# Altium integrated library TI Data Converters Analog to Digital Converter.IntLib: 2197 symbols (part 56 of 168)
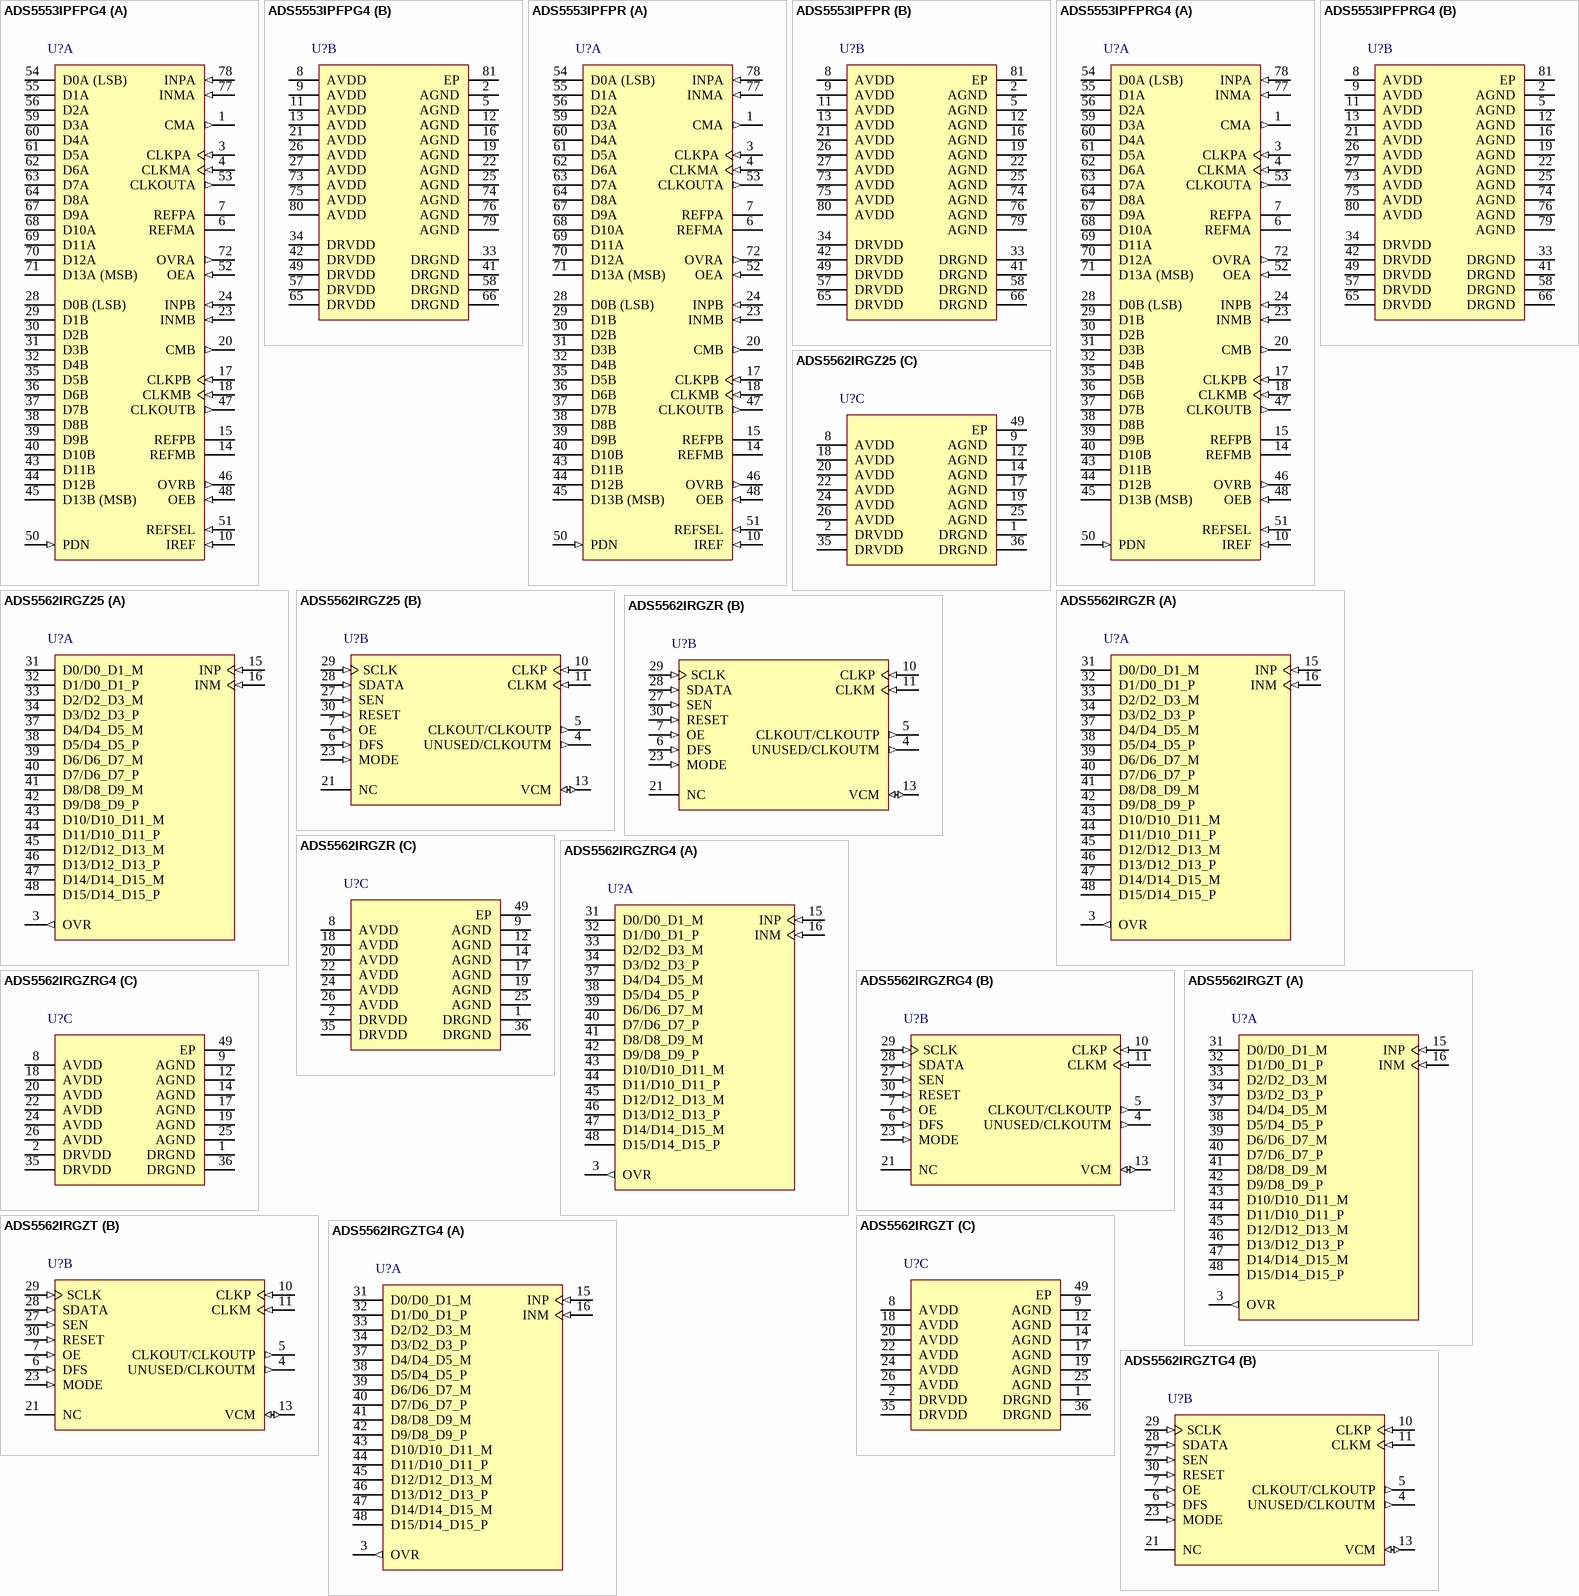
[diagram p181: symbols ADS5553IPFPG4 to ADS5562IRGZTG4]

## ADS5562IRGZR
designator U?
16-Bit 80 MSPS Low Power ADC with Selectable LVDS / CMOS Output, -40 to 85 degC, 48-pin QFN (RGZ48), Green (RoHS & no Sb/Br); Manufacturer: Texas Instruments; PartNumber: ADS5562IRGZR; # Input Channels: 1; Analog Voltage AV/DD(Max)(V): 3.6; Analog Voltage AV/DD(Min)(V): 3; Architecture: Pipeline; ENOB(Bits): 13.1; INL(Max)(+/-LSB): 8.5; Interface: Parallel LVDS,Serial SPI Interface; Resolution(Bits): 16; Sample Rate (max)(SPS): 80M; SFDR(dB): 85; SINAD(dB): 80.5; SNR(dB): 84; SubFamily: High Speed ADC (>10MSPS); DatasheetVersion: SLWS207A; PackageVersion: 4204101/F, 06/2011; PackageReference: RGZ48-5150X5150TP; PackageDescription: 48-Pin Plastic Flat Pack, Body 7 x 7 mm, Pitch 0.5 mm; Supplier 1: Digi-Key; Supplier Part Number 1: ADS8371IBPFBR-ND; Supplier 2: Mouser; Supplier Part Number 2: 595-ADS8371IBPFBR; Digital Supply(Max)(V): 3.6; Digital Supply(Min)(V): 3; Eco-Plan: Green (RoHS & no Sb/Br); Mounting Technology: Surface Mount; Code_JEDEC: MO-220; ComponentLink1Description: Manufacturer URL; ComponentLink1URL: http://www.ti.com/; ComponentLink2Description: Datasheet; ComponentLink2URL: http://www.ti.com/general/docs/lit/getliterature.tsp?genericPartNumber=ADS5562&fileType=pdf; ComponentLink3Description: Package Specification; ComponentLink3URL: http://www.ti.com/lit/ml/mpqf123e/mpqf123e.pdf
footprint TI-RGZ48-5150X5150TP_V (QFN, 48-Leads, Body 7x7mm, Pitch 0.5mm, Thermal Pad 5.15x5.15mm, TI Recommended)
part A pins: 3 OVR (out) "Out-of-range indicator, CMOS level signal", 15 INP (in) "Differential analog input", 16 INM (in) "Differential analog input", 31 D0/D0_D1_M (hiz), 32 D1/D0_D1_P (hiz), 33 D2/D2_D3_M (hiz), 34 D3/D2_D3_P (hiz), 37 D4/D4_D5_M (hiz), 38 D5/D4_D5_P (hiz), 39 D6/D6_D7_M (hiz), 40 D7/D6_D7_P (hiz), 41 D8/D8_D9_M (hiz), 42 D9/D8_D9_P (hiz), 43 D10/D10_D11_M (hiz), 44 D11/D10_D11_P (hiz), 45 D12/D12_D13_M (hiz), 46 D13/D12_D13_P (hiz), 47 D14/D14_D15_M (hiz), 48 D15/D14_D15_P (hiz)
part B pins: 4 UNUSED/CLKOUTM (out), 5 CLKOUT/CLKOUTP (out), 6 DFS (in) "Data Format Select input. This pin sets the DATA FORMAT (Twos complement or Offset binary) and the LVDS/CMOS output mode type. See Table 8 for detailed information. The pin has an internal 100-kohm pull-down resistor to (See Datasheet)", 7 OE (in) "Output buffer enable input, active high. The pin has an internal 100-kohm pull-up resistor to DRVDD.", 10 CLKP (in) "Differential clock input", 11 CLKM (in) "Differential clock input", 13 VCM (io) "Internal reference mode - Common-mode voltage output. External reference mode - Reference input. The voltage forced on this pin sets the internal references.", 21 NC "Do not connect", 23 MODE (in) "Mode select input. This pin selects the Internal or External reference mode. See Table 9 for detailed information. The pin has an internal 100-kohm pull-down resistor to AGND.", 27 SEN (in) "This pin functions as serial interface enable input when RESET is low. It functions as CLKOUT edge programmability when RESET is tied high. See Table 7 for detailed information. The pin has an internal 100-kohm pull-up (See Datasheet)", 28 SDATA (in) "This pin functions as serial interface data input when RESET is low. It functions as STANDBY control pin when RESET is tied high.See Table 6 for detailed information.The pin has an internal 100-kohm pull-down resistor to (See Datasheet)", 29 SCLK (in) "This pin functions as serial interface clock input when RESET is low. It functions as LOW SPEED MODE control when RESET is tied high.", 30 RESET (in) "Serial interface reset input. When using the serial interface, the user should apply a high-going pulse onthis pin to reset the internal registers. When the serial interface is not used, the user should tie RESET permanently (See Datasheet)"
part C pins: 1 DRGND (power) "Digital and output buffer ground", 2 DRVDD (power) "Digital and output buffer supply", 8 AVDD (power) "Analog power supply", 9 AGND (power) "Analog ground", 12 AGND (power) "Analog ground", 14 AGND (power) "Analog ground", 17 AGND (power) "Analog ground", 18 AVDD (power) "Analog power supply", 19 AGND (power) "Analog ground", 20 AVDD (power) "Analog power supply", 22 AVDD (power) "Analog power supply", 24 AVDD (power) "Analog power supply", 25 AGND (power) "Analog ground", 26 AVDD (power) "Analog power supply", 35 DRVDD (power) "Digital and output buffer supply", 36 DRGND (power) "Digital and output buffer ground", 49 EP (power) "Connect the PAD to the ground plane. See in application section."

## ADS5562IRGZRG4
designator U?
16-Bit 80 MSPS Low Power ADC with Selectable LVDS / CMOS Output, -40 to 85 degC, 48-pin QFN (RGZ48), Green (RoHS & no Sb/Br); Manufacturer: Texas Instruments; PartNumber: ADS5562IRGZRG4; # Input Channels: 1; Analog Voltage AV/DD(Max)(V): 3.6; Analog Voltage AV/DD(Min)(V): 3; Architecture: Pipeline; ENOB(Bits): 13.1; INL(Max)(+/-LSB): 8.5; Interface: Parallel LVDS,Serial SPI Interface; Resolution(Bits): 16; Sample Rate (max)(SPS): 80M; SFDR(dB): 85; SINAD(dB): 80.5; SNR(dB): 84; SubFamily: High Speed ADC (>10MSPS); DatasheetVersion: SLWS207A; PackageVersion: 4204101/F, 06/2011; PackageReference: RGZ48-5150X5150TP; PackageDescription: 48-Pin Plastic Flat Pack, Body 7 x 7 mm, Pitch 0.5 mm; Supplier 1: Digi-Key; Supplier Part Number 1: ADS8371IBPFBRG4-ND; Supplier 2: Mouser; Supplier Part Number 2: 595-ADS8371IBPFBRG4; Digital Supply(Max)(V): 3.6; Digital Supply(Min)(V): 3; Eco-Plan: Green (RoHS & no Sb/Br); Mounting Technology: Surface Mount; Code_JEDEC: MO-220; ComponentLink1Description: Manufacturer URL; ComponentLink1URL: http://www.ti.com/; ComponentLink2Description: Datasheet; ComponentLink2URL: http://www.ti.com/general/docs/lit/getliterature.tsp?genericPartNumber=ADS5562&fileType=pdf; ComponentLink3Description: Package Specification; ComponentLink3URL: http://www.ti.com/lit/ml/mpqf123e/mpqf123e.pdf
footprint TI-RGZ48-5150X5150TP_V (QFN, 48-Leads, Body 7x7mm, Pitch 0.5mm, Thermal Pad 5.15x5.15mm, TI Recommended)
part A pins: 3 OVR (out) "Out-of-range indicator, CMOS level signal", 15 INP (in) "Differential analog input", 16 INM (in) "Differential analog input", 31 D0/D0_D1_M (hiz), 32 D1/D0_D1_P (hiz), 33 D2/D2_D3_M (hiz), 34 D3/D2_D3_P (hiz), 37 D4/D4_D5_M (hiz), 38 D5/D4_D5_P (hiz), 39 D6/D6_D7_M (hiz), 40 D7/D6_D7_P (hiz), 41 D8/D8_D9_M (hiz), 42 D9/D8_D9_P (hiz), 43 D10/D10_D11_M (hiz), 44 D11/D10_D11_P (hiz), 45 D12/D12_D13_M (hiz), 46 D13/D12_D13_P (hiz), 47 D14/D14_D15_M (hiz), 48 D15/D14_D15_P (hiz)
part B pins: 4 UNUSED/CLKOUTM (out), 5 CLKOUT/CLKOUTP (out), 6 DFS (in) "Data Format Select input. This pin sets the DATA FORMAT (Twos complement or Offset binary) and the LVDS/CMOS output mode type. See Table 8 for detailed information. The pin has an internal 100-kohm pull-down resistor to (See Datasheet)", 7 OE (in) "Output buffer enable input, active high. The pin has an internal 100-kohm pull-up resistor to DRVDD.", 10 CLKP (in) "Differential clock input", 11 CLKM (in) "Differential clock input", 13 VCM (io) "Internal reference mode - Common-mode voltage output. External reference mode - Reference input. The voltage forced on this pin sets the internal references.", 21 NC "Do not connect", 23 MODE (in) "Mode select input. This pin selects the Internal or External reference mode. See Table 9 for detailed information. The pin has an internal 100-kohm pull-down resistor to AGND.", 27 SEN (in) "This pin functions as serial interface enable input when RESET is low. It functions as CLKOUT edge programmability when RESET is tied high. See Table 7 for detailed information. The pin has an internal 100-kohm pull-up (See Datasheet)", 28 SDATA (in) "This pin functions as serial interface data input when RESET is low. It functions as STANDBY control pin when RESET is tied high.See Table 6 for detailed information.The pin has an internal 100-kohm pull-down resistor to (See Datasheet)", 29 SCLK (in) "This pin functions as serial interface clock input when RESET is low. It functions as LOW SPEED MODE control when RESET is tied high.", 30 RESET (in) "Serial interface reset input. When using the serial interface, the user should apply a high-going pulse onthis pin to reset the internal registers. When the serial interface is not used, the user should tie RESET permanently (See Datasheet)"
part C pins: 1 DRGND (power) "Digital and output buffer ground", 2 DRVDD (power) "Digital and output buffer supply", 8 AVDD (power) "Analog power supply", 9 AGND (power) "Analog ground", 12 AGND (power) "Analog ground", 14 AGND (power) "Analog ground", 17 AGND (power) "Analog ground", 18 AVDD (power) "Analog power supply", 19 AGND (power) "Analog ground", 20 AVDD (power) "Analog power supply", 22 AVDD (power) "Analog power supply", 24 AVDD (power) "Analog power supply", 25 AGND (power) "Analog ground", 26 AVDD (power) "Analog power supply", 35 DRVDD (power) "Digital and output buffer supply", 36 DRGND (power) "Digital and output buffer ground", 49 EP (power) "Connect the PAD to the ground plane. See in application section."

## ADS5562IRGZT
designator U?
16-Bit 80 MSPS Low Power ADC with Selectable LVDS / CMOS Output, -40 to 85 degC, 48-pin QFN (RGZ48), Green (RoHS & no Sb/Br); Manufacturer: Texas Instruments; PartNumber: ADS5562IRGZT; # Input Channels: 1; Analog Voltage AV/DD(Max)(V): 3.6; Analog Voltage AV/DD(Min)(V): 3; Architecture: Pipeline; ENOB(Bits): 13.1; INL(Max)(+/-LSB): 8.5; Interface: Parallel LVDS,Serial SPI Interface; Resolution(Bits): 16; Sample Rate (max)(SPS): 80M; SFDR(dB): 85; SINAD(dB): 80.5; SNR(dB): 84; SubFamily: High Speed ADC (>10MSPS); DatasheetVersion: SLWS207A; PackageVersion: 4204101/F, 06/2011; PackageReference: RGZ48-5150X5150TP; PackageDescription: 48-Pin Plastic Flat Pack, Body 7 x 7 mm, Pitch 0.5 mm; Supplier 1: Digi-Key; Supplier Part Number 1: 296-16683-2-ND; Supplier 2: Digi-Key; Supplier Part Number 2: 296-16683-1-ND; Supplier 3: Digi-Key; Supplier Part Number 3: 296-16683-6-ND; Supplier 4: Farnell; Supplier Part Number 4: 1459295; Supplier 5: Newark; Supplier Part Number 5: 90H0484; Supplier 6: Mouser; Supplier Part Number 6: 595-ADS8371IBPFBT; Digital Supply(Max)(V): 3.6; Digital Supply(Min)(V): 3; Eco-Plan: Green (RoHS & no Sb/Br); Mounting Technology: Surface Mount; Code_JEDEC: MO-220; ComponentLink1Description: Manufacturer URL; ComponentLink1URL: http://www.ti.com/; ComponentLink2Description: Datasheet; ComponentLink2URL: http://www.ti.com/general/docs/lit/getliterature.tsp?genericPartNumber=ADS5562&fileType=pdf; ComponentLink3Description: Package Specification; ComponentLink3URL: http://www.ti.com/lit/ml/mpqf123e/mpqf123e.pdf
footprint TI-RGZ48-5150X5150TP_V (QFN, 48-Leads, Body 7x7mm, Pitch 0.5mm, Thermal Pad 5.15x5.15mm, TI Recommended)
part A pins: 3 OVR (out) "Out-of-range indicator, CMOS level signal", 15 INP (in) "Differential analog input", 16 INM (in) "Differential analog input", 31 D0/D0_D1_M (hiz), 32 D1/D0_D1_P (hiz), 33 D2/D2_D3_M (hiz), 34 D3/D2_D3_P (hiz), 37 D4/D4_D5_M (hiz), 38 D5/D4_D5_P (hiz), 39 D6/D6_D7_M (hiz), 40 D7/D6_D7_P (hiz), 41 D8/D8_D9_M (hiz), 42 D9/D8_D9_P (hiz), 43 D10/D10_D11_M (hiz), 44 D11/D10_D11_P (hiz), 45 D12/D12_D13_M (hiz), 46 D13/D12_D13_P (hiz), 47 D14/D14_D15_M (hiz), 48 D15/D14_D15_P (hiz)
part B pins: 4 UNUSED/CLKOUTM (out), 5 CLKOUT/CLKOUTP (out), 6 DFS (in) "Data Format Select input. This pin sets the DATA FORMAT (Twos complement or Offset binary) and the LVDS/CMOS output mode type. See Table 8 for detailed information. The pin has an internal 100-kohm pull-down resistor to (See Datasheet)", 7 OE (in) "Output buffer enable input, active high. The pin has an internal 100-kohm pull-up resistor to DRVDD.", 10 CLKP (in) "Differential clock input", 11 CLKM (in) "Differential clock input", 13 VCM (io) "Internal reference mode - Common-mode voltage output. External reference mode - Reference input. The voltage forced on this pin sets the internal references.", 21 NC "Do not connect", 23 MODE (in) "Mode select input. This pin selects the Internal or External reference mode. See Table 9 for detailed information. The pin has an internal 100-kohm pull-down resistor to AGND.", 27 SEN (in) "This pin functions as serial interface enable input when RESET is low. It functions as CLKOUT edge programmability when RESET is tied high. See Table 7 for detailed information. The pin has an internal 100-kohm pull-up (See Datasheet)", 28 SDATA (in) "This pin functions as serial interface data input when RESET is low. It functions as STANDBY control pin when RESET is tied high.See Table 6 for detailed information.The pin has an internal 100-kohm pull-down resistor to (See Datasheet)", 29 SCLK (in) "This pin functions as serial interface clock input when RESET is low. It functions as LOW SPEED MODE control when RESET is tied high.", 30 RESET (in) "Serial interface reset input. When using the serial interface, the user should apply a high-going pulse onthis pin to reset the internal registers. When the serial interface is not used, the user should tie RESET permanently (See Datasheet)"
part C pins: 1 DRGND (power) "Digital and output buffer ground", 2 DRVDD (power) "Digital and output buffer supply", 8 AVDD (power) "Analog power supply", 9 AGND (power) "Analog ground", 12 AGND (power) "Analog ground", 14 AGND (power) "Analog ground", 17 AGND (power) "Analog ground", 18 AVDD (power) "Analog power supply", 19 AGND (power) "Analog ground", 20 AVDD (power) "Analog power supply", 22 AVDD (power) "Analog power supply", 24 AVDD (power) "Analog power supply", 25 AGND (power) "Analog ground", 26 AVDD (power) "Analog power supply", 35 DRVDD (power) "Digital and output buffer supply", 36 DRGND (power) "Digital and output buffer ground", 49 EP (power) "Connect the PAD to the ground plane. See in application section."

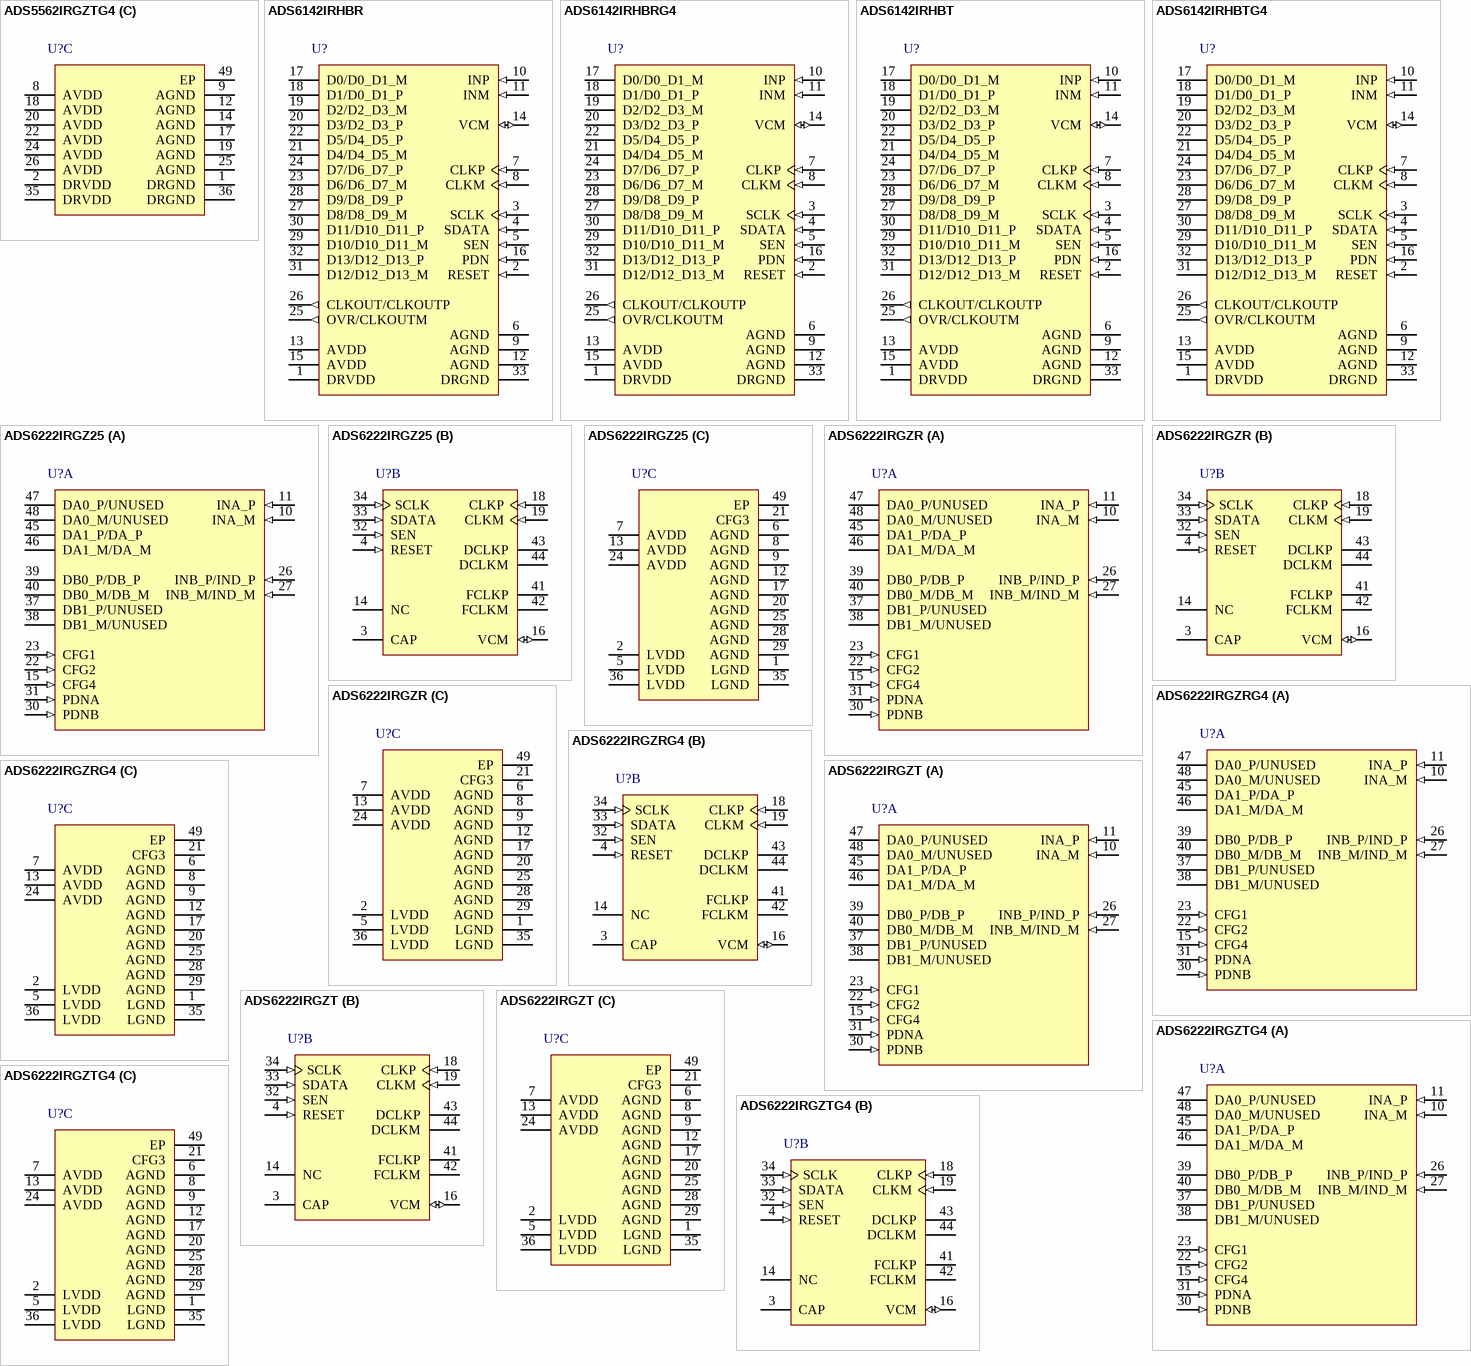
[diagram p55: symbols ADS5562IRGZTG4 to ADS6222IRGZTG4]

## ADS5562IRGZTG4
designator U?
16-Bit 80 MSPS Low Power ADC with Selectable LVDS / CMOS Output, -40 to 85 degC, 48-pin QFN (RGZ48), Green (RoHS & no Sb/Br); Manufacturer: Texas Instruments; PartNumber: ADS5562IRGZTG4; # Input Channels: 1; Analog Voltage AV/DD(Max)(V): 3.6; Analog Voltage AV/DD(Min)(V): 3; Architecture: Pipeline; ENOB(Bits): 13.1; INL(Max)(+/-LSB): 8.5; Interface: Parallel LVDS,Serial SPI Interface; Resolution(Bits): 16; Sample Rate (max)(SPS): 80M; SFDR(dB): 85; SINAD(dB): 80.5; SNR(dB): 84; SubFamily: High Speed ADC (>10MSPS); DatasheetVersion: SLWS207A; PackageVersion: 4204101/F, 06/2011; PackageReference: RGZ48-5150X5150TP; PackageDescription: 48-Pin Plastic Flat Pack, Body 7 x 7 mm, Pitch 0.5 mm; Supplier 1: Digi-Key; Supplier Part Number 1: ADS8371IBPFBTG4-ND; Supplier 2: Mouser; Supplier Part Number 2: 595-ADS8371IBPFBTG4; Digital Supply(Max)(V): 3.6; Digital Supply(Min)(V): 3; Eco-Plan: Green (RoHS & no Sb/Br); Mounting Technology: Surface Mount; Code_JEDEC: MO-220; ComponentLink1Description: Manufacturer URL; ComponentLink1URL: http://www.ti.com/; ComponentLink2Description: Datasheet; ComponentLink2URL: http://www.ti.com/general/docs/lit/getliterature.tsp?genericPartNumber=ADS5562&fileType=pdf; ComponentLink3Description: Package Specification; ComponentLink3URL: http://www.ti.com/lit/ml/mpqf123e/mpqf123e.pdf
footprint TI-RGZ48-5150X5150TP_V (QFN, 48-Leads, Body 7x7mm, Pitch 0.5mm, Thermal Pad 5.15x5.15mm, TI Recommended)
part A pins: 3 OVR (out) "Out-of-range indicator, CMOS level signal", 15 INP (in) "Differential analog input", 16 INM (in) "Differential analog input", 31 D0/D0_D1_M (hiz), 32 D1/D0_D1_P (hiz), 33 D2/D2_D3_M (hiz), 34 D3/D2_D3_P (hiz), 37 D4/D4_D5_M (hiz), 38 D5/D4_D5_P (hiz), 39 D6/D6_D7_M (hiz), 40 D7/D6_D7_P (hiz), 41 D8/D8_D9_M (hiz), 42 D9/D8_D9_P (hiz), 43 D10/D10_D11_M (hiz), 44 D11/D10_D11_P (hiz), 45 D12/D12_D13_M (hiz), 46 D13/D12_D13_P (hiz), 47 D14/D14_D15_M (hiz), 48 D15/D14_D15_P (hiz)
part B pins: 4 UNUSED/CLKOUTM (out), 5 CLKOUT/CLKOUTP (out), 6 DFS (in) "Data Format Select input. This pin sets the DATA FORMAT (Twos complement or Offset binary) and the LVDS/CMOS output mode type. See Table 8 for detailed information. The pin has an internal 100-kohm pull-down resistor to (See Datasheet)", 7 OE (in) "Output buffer enable input, active high. The pin has an internal 100-kohm pull-up resistor to DRVDD.", 10 CLKP (in) "Differential clock input", 11 CLKM (in) "Differential clock input", 13 VCM (io) "Internal reference mode - Common-mode voltage output. External reference mode - Reference input. The voltage forced on this pin sets the internal references.", 21 NC "Do not connect", 23 MODE (in) "Mode select input. This pin selects the Internal or External reference mode. See Table 9 for detailed information. The pin has an internal 100-kohm pull-down resistor to AGND.", 27 SEN (in) "This pin functions as serial interface enable input when RESET is low. It functions as CLKOUT edge programmability when RESET is tied high. See Table 7 for detailed information. The pin has an internal 100-kohm pull-up (See Datasheet)", 28 SDATA (in) "This pin functions as serial interface data input when RESET is low. It functions as STANDBY control pin when RESET is tied high.See Table 6 for detailed information.The pin has an internal 100-kohm pull-down resistor to (See Datasheet)", 29 SCLK (in) "This pin functions as serial interface clock input when RESET is low. It functions as LOW SPEED MODE control when RESET is tied high.", 30 RESET (in) "Serial interface reset input. When using the serial interface, the user should apply a high-going pulse onthis pin to reset the internal registers. When the serial interface is not used, the user should tie RESET permanently (See Datasheet)"
part C pins: 1 DRGND (power) "Digital and output buffer ground", 2 DRVDD (power) "Digital and output buffer supply", 8 AVDD (power) "Analog power supply", 9 AGND (power) "Analog ground", 12 AGND (power) "Analog ground", 14 AGND (power) "Analog ground", 17 AGND (power) "Analog ground", 18 AVDD (power) "Analog power supply", 19 AGND (power) "Analog ground", 20 AVDD (power) "Analog power supply", 22 AVDD (power) "Analog power supply", 24 AVDD (power) "Analog power supply", 25 AGND (power) "Analog ground", 26 AVDD (power) "Analog power supply", 35 DRVDD (power) "Digital and output buffer supply", 36 DRGND (power) "Digital and output buffer ground", 49 EP (power) "Connect the PAD to the ground plane. See in application section."

## ADS6142IRHBR
designator U?
Low Power 14-Bit 65 MSPS ADC with Selectable Parallel CMOS or LVDS Outputs, -40 to 85 degC, 32-pin QFN (RHB32), Green (RoHS & no Sb/Br); Manufacturer: Texas Instruments; PartNumber: ADS6142IRHBR; # Input Channels: 1; Analog Voltage AV/DD(Max)(V): 3.6; Analog Voltage AV/DD(Min)(V): 3; Architecture: Pipeline; ENOB(Bits): 12; INL(Max)(+/-LSB): 4; Interface: Parallel LVDS, Serial SPI Interface; Resolution(Bits): 14; Sample Rate (max)(SPS): 65M; SFDR(dB): 95; SINAD(dB): 74.6; SNR(dB): 75; SubFamily: High Speed ADC (>10MSPS); DatasheetVersion: SLWS198B; PackageVersion: 4204326/D, 06/2011; PackageReference: RHB32-3450X3450TP; PackageDescription: 32-Pin Plastic Flat Pack, Body 5 x 5 mm, Pitch 0.5 mm; Supplier 1: Digi-Key; Supplier Part Number 1: 296-16684-2-ND; Supplier 2: Digi-Key; Supplier Part Number 2: 296-16684-1-ND; Supplier 3: Digi-Key; Supplier Part Number 3: 296-16684-6-ND; Supplier 4: Mouser; Supplier Part Number 4: 595-ADS8371IPFBT; Digital Supply(Max)(V): 3.6; Digital Supply(Min)(V): 3; Eco-Plan: Green (RoHS & no Sb/Br); Mounting Technology: Surface Mount; Code_JEDEC: MO-220; ComponentLink1Description: Manufacturer URL; ComponentLink1URL: http://www.ti.com/; ComponentLink2Description: Datasheet; ComponentLink2URL: http://www.ti.com/general/docs/lit/getliterature.tsp?genericPartNumber=ADS6142&fileType=pdf; ComponentLink3Description: Package Specification; ComponentLink3URL: http://www.ti.com/lit/ml/mpqf130c/mpqf130c.pdf
footprint TI-RHB32-3450X3450TP_V (QFN, 32-Leads, Body 5x5mm, Pitch 0.5mm, Thermal Pad 3.45x3.45mm)
pins: 1 DRVDD (power) "Digital supply", 2 RESET (in) "Serial interface RESET input. When using serial interface mode, the user MUST initialize the internal registers through a hardware RESET by applying a high-going pulse on this pin, or by using the software reset option. See (See Datasheet)", 3 SCLK (in) "This pin functions as the serial interface clock input when RESET is low. When RESET is tied high, it controls coarse gain and internal/external reference selection. Tie SCLK low for internal reference and 0 dB gain and high (See Datasheet)", 4 SDATA (in) "This pin functions as the serial interface data input when RESET is low. It controls various power down modes along with the PDN pin when RESET is tied high. See Table 3 for detailed information. The pin has an internal (See Datasheet)", 5 SEN (in) "This pin functions as the serial interface enable input when RESET is low. When RESET is high, it controls output interface type and data formats. See Table 2 for detailed information. The pin has an internal 100-kohm (See Datasheet)", 6 AGND (power) "Analog ground", 7 CLKP (in) "Differential clock inputs", 8 CLKM (in) "Differential clock inputs", 9 AGND (power) "Analog ground", 10 INP (in) "Differential analog inputs", 11 INM (in) "Differential analog inputs", 12 AGND (power) "Analog ground", 13 AVDD (power) "Analog power supply", 14 VCM (io) "Internal reference mode - common-mode voltage output. External reference mode - reference input. The voltage forced on this pin sets the internal references.", 15 AVDD (power) "Analog power supply", 16 PDN (in) "Global power-down control pin", 17 D0/D0_D1_M (hiz), 18 D1/D0_D1_P (hiz), 19 D2/D2_D3_M (hiz), 20 D3/D2_D3_P (hiz), 21 D4/D4_D5_M (hiz), 22 D5/D4_D5_P (hiz), 23 D6/D6_D7_M (hiz), 24 D7/D6_D7_P (hiz), 25 OVR/CLKOUTM (out), 26 CLKOUT/CLKOUTP (out), 27 D8/D8_D9_M (hiz), 28 D9/D8_D9_P (hiz), 29 D10/D10_D11_M (hiz), 30 D11/D10_D11_P (hiz), 31 D12/D12_D13_M (hiz), 32 D13/D12_D13_P (hiz), 33 DRGND (power) "Digital ground. Connect the pad to the ground plane. See Board Design Considerations in the application information section."

## ADS6142IRHBRG4
designator U?
Low Power 14-Bit 65 MSPS ADC with Selectable Parallel CMOS or LVDS Outputs, -40 to 85 degC, 32-pin QFN (RHB32), Green (RoHS & no Sb/Br); Manufacturer: Texas Instruments; PartNumber: ADS6142IRHBRG4; # Input Channels: 1; Analog Voltage AV/DD(Max)(V): 3.6; Analog Voltage AV/DD(Min)(V): 3; Architecture: Pipeline; ENOB(Bits): 12; INL(Max)(+/-LSB): 4; Interface: Parallel LVDS, Serial SPI Interface; Resolution(Bits): 14; Sample Rate (max)(SPS): 65M; SFDR(dB): 95; SINAD(dB): 74.6; SNR(dB): 75; SubFamily: High Speed ADC (>10MSPS); DatasheetVersion: SLWS198B; PackageVersion: 4204326/D, 06/2011; PackageReference: RHB32-3450X3450TP; PackageDescription: 32-Pin Plastic Flat Pack, Body 5 x 5 mm, Pitch 0.5 mm; Supplier 1: Digi-Key; Supplier Part Number 1: ADS8371IPFBTG4-ND; Supplier 2: Mouser; Supplier Part Number 2: 595-ADS8371IPFBTG4; Digital Supply(Max)(V): 3.6; Digital Supply(Min)(V): 3; Eco-Plan: Green (RoHS & no Sb/Br); Mounting Technology: Surface Mount; Code_JEDEC: MO-220; ComponentLink1Description: Manufacturer URL; ComponentLink1URL: http://www.ti.com/; ComponentLink2Description: Datasheet; ComponentLink2URL: http://www.ti.com/general/docs/lit/getliterature.tsp?genericPartNumber=ADS6142&fileType=pdf; ComponentLink3Description: Package Specification; ComponentLink3URL: http://www.ti.com/lit/ml/mpqf130c/mpqf130c.pdf
footprint TI-RHB32-3450X3450TP_V (QFN, 32-Leads, Body 5x5mm, Pitch 0.5mm, Thermal Pad 3.45x3.45mm)
pins: 1 DRVDD (power) "Digital supply", 2 RESET (in) "Serial interface RESET input. When using serial interface mode, the user MUST initialize the internal registers through a hardware RESET by applying a high-going pulse on this pin, or by using the software reset option. See (See Datasheet)", 3 SCLK (in) "This pin functions as the serial interface clock input when RESET is low. When RESET is tied high, it controls coarse gain and internal/external reference selection. Tie SCLK low for internal reference and 0 dB gain and high (See Datasheet)", 4 SDATA (in) "This pin functions as the serial interface data input when RESET is low. It controls various power down modes along with the PDN pin when RESET is tied high. See Table 3 for detailed information. The pin has an internal (See Datasheet)", 5 SEN (in) "This pin functions as the serial interface enable input when RESET is low. When RESET is high, it controls output interface type and data formats. See Table 2 for detailed information. The pin has an internal 100-kohm (See Datasheet)", 6 AGND (power) "Analog ground", 7 CLKP (in) "Differential clock inputs", 8 CLKM (in) "Differential clock inputs", 9 AGND (power) "Analog ground", 10 INP (in) "Differential analog inputs", 11 INM (in) "Differential analog inputs", 12 AGND (power) "Analog ground", 13 AVDD (power) "Analog power supply", 14 VCM (io) "Internal reference mode - common-mode voltage output. External reference mode - reference input. The voltage forced on this pin sets the internal references.", 15 AVDD (power) "Analog power supply", 16 PDN (in) "Global power-down control pin", 17 D0/D0_D1_M (hiz), 18 D1/D0_D1_P (hiz), 19 D2/D2_D3_M (hiz), 20 D3/D2_D3_P (hiz), 21 D4/D4_D5_M (hiz), 22 D5/D4_D5_P (hiz), 23 D6/D6_D7_M (hiz), 24 D7/D6_D7_P (hiz), 25 OVR/CLKOUTM (out), 26 CLKOUT/CLKOUTP (out), 27 D8/D8_D9_M (hiz), 28 D9/D8_D9_P (hiz), 29 D10/D10_D11_M (hiz), 30 D11/D10_D11_P (hiz), 31 D12/D12_D13_M (hiz), 32 D13/D12_D13_P (hiz), 33 DRGND (power) "Digital ground. Connect the pad to the ground plane. See Board Design Considerations in the application information section."

## ADS6142IRHBT
designator U?
Low Power 14-Bit 65 MSPS ADC with Selectable Parallel CMOS or LVDS Outputs, -40 to 85 degC, 32-pin QFN (RHB32), Green (RoHS & no Sb/Br); Manufacturer: Texas Instruments; PartNumber: ADS6142IRHBT; # Input Channels: 1; Analog Voltage AV/DD(Max)(V): 3.6; Analog Voltage AV/DD(Min)(V): 3; Architecture: Pipeline; ENOB(Bits): 12; INL(Max)(+/-LSB): 4; Interface: Parallel LVDS, Serial SPI Interface; Resolution(Bits): 14; Sample Rate (max)(SPS): 65M; SFDR(dB): 95; SINAD(dB): 74.6; SNR(dB): 75; SubFamily: High Speed ADC (>10MSPS); DatasheetVersion: SLWS198B; PackageVersion: 4204326/D, 06/2011; PackageReference: RHB32-3450X3450TP; PackageDescription: 32-Pin Plastic Flat Pack, Body 5 x 5 mm, Pitch 0.5 mm; Supplier 1: Digi-Key; Supplier Part Number 1: 296-16685-2-ND; Supplier 2: Digi-Key; Supplier Part Number 2: 296-16685-1-ND; Supplier 3: Digi-Key; Supplier Part Number 3: 296-16685-6-ND; Supplier 4: Mouser; Supplier Part Number 4: 595-ADS8381IBPFBT; Digital Supply(Max)(V): 3.6; Digital Supply(Min)(V): 3; Eco-Plan: Green (RoHS & no Sb/Br); Mounting Technology: Surface Mount; Code_JEDEC: MO-220; ComponentLink1Description: Manufacturer URL; ComponentLink1URL: http://www.ti.com/; ComponentLink2Description: Datasheet; ComponentLink2URL: http://www.ti.com/general/docs/lit/getliterature.tsp?genericPartNumber=ADS6142&fileType=pdf; ComponentLink3Description: Package Specification; ComponentLink3URL: http://www.ti.com/lit/ml/mpqf130c/mpqf130c.pdf
footprint TI-RHB32-3450X3450TP_V (QFN, 32-Leads, Body 5x5mm, Pitch 0.5mm, Thermal Pad 3.45x3.45mm)
pins: 1 DRVDD (power) "Digital supply", 2 RESET (in) "Serial interface RESET input. When using serial interface mode, the user MUST initialize the internal registers through a hardware RESET by applying a high-going pulse on this pin, or by using the software reset option. See (See Datasheet)", 3 SCLK (in) "This pin functions as the serial interface clock input when RESET is low. When RESET is tied high, it controls coarse gain and internal/external reference selection. Tie SCLK low for internal reference and 0 dB gain and high (See Datasheet)", 4 SDATA (in) "This pin functions as the serial interface data input when RESET is low. It controls various power down modes along with the PDN pin when RESET is tied high. See Table 3 for detailed information. The pin has an internal (See Datasheet)", 5 SEN (in) "This pin functions as the serial interface enable input when RESET is low. When RESET is high, it controls output interface type and data formats. See Table 2 for detailed information. The pin has an internal 100-kohm (See Datasheet)", 6 AGND (power) "Analog ground", 7 CLKP (in) "Differential clock inputs", 8 CLKM (in) "Differential clock inputs", 9 AGND (power) "Analog ground", 10 INP (in) "Differential analog inputs", 11 INM (in) "Differential analog inputs", 12 AGND (power) "Analog ground", 13 AVDD (power) "Analog power supply", 14 VCM (io) "Internal reference mode - common-mode voltage output. External reference mode - reference input. The voltage forced on this pin sets the internal references.", 15 AVDD (power) "Analog power supply", 16 PDN (in) "Global power-down control pin", 17 D0/D0_D1_M (hiz), 18 D1/D0_D1_P (hiz), 19 D2/D2_D3_M (hiz), 20 D3/D2_D3_P (hiz), 21 D4/D4_D5_M (hiz), 22 D5/D4_D5_P (hiz), 23 D6/D6_D7_M (hiz), 24 D7/D6_D7_P (hiz), 25 OVR/CLKOUTM (out), 26 CLKOUT/CLKOUTP (out), 27 D8/D8_D9_M (hiz), 28 D9/D8_D9_P (hiz), 29 D10/D10_D11_M (hiz), 30 D11/D10_D11_P (hiz), 31 D12/D12_D13_M (hiz), 32 D13/D12_D13_P (hiz), 33 DRGND (power) "Digital ground. Connect the pad to the ground plane. See Board Design Considerations in the application information section."

## ADS6142IRHBTG4
designator U?
Low Power 14-Bit 65 MSPS ADC with Selectable Parallel CMOS or LVDS Outputs, -40 to 85 degC, 32-pin QFN (RHB32), Green (RoHS & no Sb/Br); Manufacturer: Texas Instruments; PartNumber: ADS6142IRHBTG4; # Input Channels: 1; Analog Voltage AV/DD(Max)(V): 3.6; Analog Voltage AV/DD(Min)(V): 3; Architecture: Pipeline; ENOB(Bits): 12; INL(Max)(+/-LSB): 4; Interface: Parallel LVDS, Serial SPI Interface; Resolution(Bits): 14; Sample Rate (max)(SPS): 65M; SFDR(dB): 95; SINAD(dB): 74.6; SNR(dB): 75; SubFamily: High Speed ADC (>10MSPS); DatasheetVersion: SLWS198B; PackageVersion: 4204326/D, 06/2011; PackageReference: RHB32-3450X3450TP; PackageDescription: 32-Pin Plastic Flat Pack, Body 5 x 5 mm, Pitch 0.5 mm; Supplier 1: Digi-Key; Supplier Part Number 1: ADS8381IBPFBTG4-ND; Supplier 2: Mouser; Supplier Part Number 2: 595-ADS8381IBPFBTG4; Digital Supply(Max)(V): 3.6; Digital Supply(Min)(V): 3; Eco-Plan: Green (RoHS & no Sb/Br); Mounting Technology: Surface Mount; Code_JEDEC: MO-220; ComponentLink1Description: Manufacturer URL; ComponentLink1URL: http://www.ti.com/; ComponentLink2Description: Datasheet; ComponentLink2URL: http://www.ti.com/general/docs/lit/getliterature.tsp?genericPartNumber=ADS6142&fileType=pdf; ComponentLink3Description: Package Specification; ComponentLink3URL: http://www.ti.com/lit/ml/mpqf130c/mpqf130c.pdf
footprint TI-RHB32-3450X3450TP_V (QFN, 32-Leads, Body 5x5mm, Pitch 0.5mm, Thermal Pad 3.45x3.45mm)
pins: 1 DRVDD (power) "Digital supply", 2 RESET (in) "Serial interface RESET input. When using serial interface mode, the user MUST initialize the internal registers through a hardware RESET by applying a high-going pulse on this pin, or by using the software reset option. See (See Datasheet)", 3 SCLK (in) "This pin functions as the serial interface clock input when RESET is low. When RESET is tied high, it controls coarse gain and internal/external reference selection. Tie SCLK low for internal reference and 0 dB gain and high (See Datasheet)", 4 SDATA (in) "This pin functions as the serial interface data input when RESET is low. It controls various power down modes along with the PDN pin when RESET is tied high. See Table 3 for detailed information. The pin has an internal (See Datasheet)", 5 SEN (in) "This pin functions as the serial interface enable input when RESET is low. When RESET is high, it controls output interface type and data formats. See Table 2 for detailed information. The pin has an internal 100-kohm (See Datasheet)", 6 AGND (power) "Analog ground", 7 CLKP (in) "Differential clock inputs", 8 CLKM (in) "Differential clock inputs", 9 AGND (power) "Analog ground", 10 INP (in) "Differential analog inputs", 11 INM (in) "Differential analog inputs", 12 AGND (power) "Analog ground", 13 AVDD (power) "Analog power supply", 14 VCM (io) "Internal reference mode - common-mode voltage output. External reference mode - reference input. The voltage forced on this pin sets the internal references.", 15 AVDD (power) "Analog power supply", 16 PDN (in) "Global power-down control pin", 17 D0/D0_D1_M (hiz), 18 D1/D0_D1_P (hiz), 19 D2/D2_D3_M (hiz), 20 D3/D2_D3_P (hiz), 21 D4/D4_D5_M (hiz), 22 D5/D4_D5_P (hiz), 23 D6/D6_D7_M (hiz), 24 D7/D6_D7_P (hiz), 25 OVR/CLKOUTM (out), 26 CLKOUT/CLKOUTP (out), 27 D8/D8_D9_M (hiz), 28 D9/D8_D9_P (hiz), 29 D10/D10_D11_M (hiz), 30 D11/D10_D11_P (hiz), 31 D12/D12_D13_M (hiz), 32 D13/D12_D13_P (hiz), 33 DRGND (power) "Digital ground. Connect the pad to the ground plane. See Board Design Considerations in the application information section."

## ADS6222IRGZ25
designator U?
Dual 12-Bit 65 MSPS ADC with Serialized LVDS Output, -40 to 85 degC, 48-pin QFN (RGZ48), Green (RoHS & no Sb/Br); Manufacturer: Texas Instruments; PartNumber: ADS6222IRGZ25; # Input Channels: 2; Analog Voltage AV/DD(Max)(V): 3.6; Analog Voltage AV/DD(Min)(V): 3; Architecture: Pipeline; ENOB(Bits): 11.5; Interface: Parallel LVDS, Serial SPI Interface; Resolution(Bits): 12; Sample Rate (max)(SPS): 65M; SFDR(dB): 88; SINAD(dB): 71; SNR(dB): 71.2; SubFamily: High Speed ADC (>10MSPS); DatasheetVersion: SLAS543A; PackageVersion: 4204101/F, 06/2011; PackageReference: RGZ48-5150X5150TP; PackageDescription: 48-Pin Plastic Flat Pack, Body 7 x 7 mm, Pitch 0.5 mm; Supplier 1: Digi-Key; Supplier Part Number 1: 296-16686-2-ND; Supplier 2: Digi-Key; Supplier Part Number 2: 296-16686-1-ND; Supplier 3: Digi-Key; Supplier Part Number 3: 296-16686-6-ND; Supplier 4: Mouser; Supplier Part Number 4: 595-ADS8381IPFBT; Digital Supply(Max)(V): 3.6; Digital Supply(Min)(V): 3; Eco-Plan: Green (RoHS & no Sb/Br); INL(Max)(+/-LSB): 2; Mounting Technology: Surface Mount; Code_JEDEC: MO-220; ComponentLink1Description: Manufacturer URL; ComponentLink1URL: http://www.ti.com/; ComponentLink2Description: Datasheet; ComponentLink2URL: http://www.ti.com/general/docs/lit/getliterature.tsp?genericPartNumber=ADS6222&fileType=pdf; ComponentLink3Description: Package Specification; ComponentLink3URL: http://www.ti.com/lit/ml/mpqf123e/mpqf123e.pdf
footprint TI-RGZ48-5150X5150TP_V (QFN, 48-Leads, Body 7x7mm, Pitch 0.5mm, Thermal Pad 5.15x5.15mm, TI Recommended)
part A pins: 10 INA_M (in) "Differential input signal pair, channel A. If unused, the pins should be tied to VCM. Do not float.", 11 INA_P (in) "Differential input signal pair, channel A. If unused, the pins should be tied to VCM. Do not float.", 15 CFG4 (in) "Parallel input pin. It controls data format and MSB or LSB first modes. See Table 12 for description", 22 CFG2 (in) "Parallel input pin. It controls 12x or 14x serialization and SDR bit clock capture edge. See Table 10 for description. For 12x serialization with DDR bit clock, tie to ground or AVDD.", 23 CFG1 (in) "Parallel input pin. It controls 1-wire or 2-wire interface and DDR or SDR bit clock selection. See Table 9 for description. Tie to AVDD for 2-wire interface with DDR bit clock.", 26 INB_P/IND_P (in), 27 INB_M/IND_M (in), 30 PDNB (in) "Channel B ADC power down control pin.", 31 PDNA (in) "Channel A ADC power down control pin.", 37 DB1_P/UNUSED (hiz), 38 DB1_M/UNUSED (hiz), 39 DB0_P/DB_P (hiz), 40 DB0_M/DB_M (hiz), 45 DA1_P/DA_P (hiz), 46 DA1_M/DA_M (hiz), 47 DA0_P/UNUSED (hiz), 48 DA0_M/UNUSED (hiz)
part B pins: 3 CAP "Connect 2-nF capacitor from pin to ground", 4 RESET (in) "Serial interface reset input. When using the serial interface mode, the user MUST initialize internal registers through hardware RESET by applying a high-going pulse on this pin or by using software reset option.Refer to the (See Datasheet)", 14 NC "Do Not Connect", 16 VCM (io) "Internal reference mode - common-mode voltage output External reference mode - reference input. The voltage forced on this pin sets the internal reference.", 18 CLKP (in) "Differential input clock pair", 19 CLKM (in) "Differential input clock pair", 32 SEN (in) "This pin functions as serial interface enable input when RESET is low. When RESET is high, it controls coarse gain and internal/external reference modes. See Table 6 for description. This pin has an internal pull-up resistor.", 33 SDATA (in) "This pin functions as serial interface data input when RESET is low. When RESET is high, it controls DESKEW, SYNC and global POWER DOWN modes (along with SCLK). See Table 5 for description. This pin has an internal pull-down (See Datasheet)", 34 SCLK (in) "This pin functions as serial interface clock input when RESET is low. When RESET is high, it controls DESKEW, SYNC and global POWER DOWN modes (along with SDATA). See Table 5 for description. This pin has an internal (See Datasheet)", 41 FCLKP (hiz) "Differential frame clock output pair", 42 FCLKM (hiz) "Differential frame clock output pair", 43 DCLKP (hiz) "Differential bit clock output pair", 44 DCLKM (hiz) "Differential bit clock output pair"
part C pins: 1 LGND (power) "Digital ground", 2 LVDD (power) "Digital power supply", 5 LVDD (power) "Digital power supply", 6 AGND (power) "Analog ground", 7 AVDD (power) "Analog power supply", 8 AGND (power) "Analog ground", 9 AGND (power) "Analog ground", 12 AGND (power) "Analog ground", 13 AVDD (power) "Analog power supply", 17 AGND (power) "Analog ground", 20 AGND (power) "Analog ground", 21 CFG3 (power) "RESERVED pin - TIE to ground.", 24 AVDD (power) "Analog power supply", 25 AGND (power) "Analog ground", 28 AGND (power) "Analog ground", 29 AGND (power) "Analog ground", 35 LGND (power) "Digital ground", 36 LVDD (power) "Digital power supply", 49 EP (power) "Connect to ground plane using multiple vias. Refer to Board Design Considerations in application section"

## ADS6222IRGZR
designator U?
Dual 12-Bit 65 MSPS ADC with Serialized LVDS Output, -40 to 85 degC, 48-pin QFN (RGZ48), Green (RoHS & no Sb/Br); Manufacturer: Texas Instruments; PartNumber: ADS6222IRGZR; # Input Channels: 2; Analog Voltage AV/DD(Max)(V): 3.6; Analog Voltage AV/DD(Min)(V): 3; Architecture: Pipeline; ENOB(Bits): 11.5; Interface: Parallel LVDS, Serial SPI Interface; Resolution(Bits): 12; Sample Rate (max)(SPS): 65M; SFDR(dB): 88; SINAD(dB): 71; SNR(dB): 71.2; SubFamily: High Speed ADC (>10MSPS); DatasheetVersion: SLAS543A; PackageVersion: 4204101/F, 06/2011; PackageReference: RGZ48-5150X5150TP; PackageDescription: 48-Pin Plastic Flat Pack, Body 7 x 7 mm, Pitch 0.5 mm; Supplier 1: Digi-Key; Supplier Part Number 1: ADS8381IPFBTG4-ND; Supplier 2: Mouser; Supplier Part Number 2: 595-ADS8381IPFBTG4; Digital Supply(Max)(V): 3.6; Digital Supply(Min)(V): 3; Eco-Plan: Green (RoHS & no Sb/Br); INL(Max)(+/-LSB): 2; Mounting Technology: Surface Mount; Code_JEDEC: MO-220; ComponentLink1Description: Manufacturer URL; ComponentLink1URL: http://www.ti.com/; ComponentLink2Description: Datasheet; ComponentLink2URL: http://www.ti.com/general/docs/lit/getliterature.tsp?genericPartNumber=ADS6222&fileType=pdf; ComponentLink3Description: Package Specification; ComponentLink3URL: http://www.ti.com/lit/ml/mpqf123e/mpqf123e.pdf
footprint TI-RGZ48-5150X5150TP_V (QFN, 48-Leads, Body 7x7mm, Pitch 0.5mm, Thermal Pad 5.15x5.15mm, TI Recommended)
part A pins: 10 INA_M (in) "Differential input signal pair, channel A. If unused, the pins should be tied to VCM. Do not float.", 11 INA_P (in) "Differential input signal pair, channel A. If unused, the pins should be tied to VCM. Do not float.", 15 CFG4 (in) "Parallel input pin. It controls data format and MSB or LSB first modes. See Table 12 for description", 22 CFG2 (in) "Parallel input pin. It controls 12x or 14x serialization and SDR bit clock capture edge. See Table 10 for description. For 12x serialization with DDR bit clock, tie to ground or AVDD.", 23 CFG1 (in) "Parallel input pin. It controls 1-wire or 2-wire interface and DDR or SDR bit clock selection. See Table 9 for description. Tie to AVDD for 2-wire interface with DDR bit clock.", 26 INB_P/IND_P (in), 27 INB_M/IND_M (in), 30 PDNB (in) "Channel B ADC power down control pin.", 31 PDNA (in) "Channel A ADC power down control pin.", 37 DB1_P/UNUSED (hiz), 38 DB1_M/UNUSED (hiz), 39 DB0_P/DB_P (hiz), 40 DB0_M/DB_M (hiz), 45 DA1_P/DA_P (hiz), 46 DA1_M/DA_M (hiz), 47 DA0_P/UNUSED (hiz), 48 DA0_M/UNUSED (hiz)
part B pins: 3 CAP "Connect 2-nF capacitor from pin to ground", 4 RESET (in) "Serial interface reset input. When using the serial interface mode, the user MUST initialize internal registers through hardware RESET by applying a high-going pulse on this pin or by using software reset option.Refer to the (See Datasheet)", 14 NC "Do Not Connect", 16 VCM (io) "Internal reference mode - common-mode voltage output External reference mode - reference input. The voltage forced on this pin sets the internal reference.", 18 CLKP (in) "Differential input clock pair", 19 CLKM (in) "Differential input clock pair", 32 SEN (in) "This pin functions as serial interface enable input when RESET is low. When RESET is high, it controls coarse gain and internal/external reference modes. See Table 6 for description. This pin has an internal pull-up resistor.", 33 SDATA (in) "This pin functions as serial interface data input when RESET is low. When RESET is high, it controls DESKEW, SYNC and global POWER DOWN modes (along with SCLK). See Table 5 for description. This pin has an internal pull-down (See Datasheet)", 34 SCLK (in) "This pin functions as serial interface clock input when RESET is low. When RESET is high, it controls DESKEW, SYNC and global POWER DOWN modes (along with SDATA). See Table 5 for description. This pin has an internal (See Datasheet)", 41 FCLKP (hiz) "Differential frame clock output pair", 42 FCLKM (hiz) "Differential frame clock output pair", 43 DCLKP (hiz) "Differential bit clock output pair", 44 DCLKM (hiz) "Differential bit clock output pair"
part C pins: 1 LGND (power) "Digital ground", 2 LVDD (power) "Digital power supply", 5 LVDD (power) "Digital power supply", 6 AGND (power) "Analog ground", 7 AVDD (power) "Analog power supply", 8 AGND (power) "Analog ground", 9 AGND (power) "Analog ground", 12 AGND (power) "Analog ground", 13 AVDD (power) "Analog power supply", 17 AGND (power) "Analog ground", 20 AGND (power) "Analog ground", 21 CFG3 (power) "RESERVED pin - TIE to ground.", 24 AVDD (power) "Analog power supply", 25 AGND (power) "Analog ground", 28 AGND (power) "Analog ground", 29 AGND (power) "Analog ground", 35 LGND (power) "Digital ground", 36 LVDD (power) "Digital power supply", 49 EP (power) "Connect to ground plane using multiple vias. Refer to Board Design Considerations in application section"

## ADS6222IRGZRG4
designator U?
Dual 12-Bit 65 MSPS ADC with Serialized LVDS Output, -40 to 85 degC, 48-pin QFN (RGZ48), Green (RoHS & no Sb/Br); Manufacturer: Texas Instruments; PartNumber: ADS6222IRGZRG4; # Input Channels: 2; Analog Voltage AV/DD(Max)(V): 3.6; Analog Voltage AV/DD(Min)(V): 3; Architecture: Pipeline; ENOB(Bits): 11.5; Interface: Parallel LVDS, Serial SPI Interface; Resolution(Bits): 12; Sample Rate (max)(SPS): 65M; SFDR(dB): 88; SINAD(dB): 71; SNR(dB): 71.2; SubFamily: High Speed ADC (>10MSPS); DatasheetVersion: SLAS543A; PackageVersion: 4204101/F, 06/2011; PackageReference: RGZ48-5150X5150TP; PackageDescription: 48-Pin Plastic Flat Pack, Body 7 x 7 mm, Pitch 0.5 mm; Supplier 1: Digi-Key; Supplier Part Number 1: 296-14065-2-ND; Supplier 2: Digi-Key; Supplier Part Number 2: 296-14065-1-ND; Supplier 3: Digi-Key; Supplier Part Number 3: 296-14065-6-ND; Supplier 4: Newark; Supplier Part Number 4: 20H0731; Supplier 5: Mouser; Supplier Part Number 5: 595-ADS8383IBPFBT; Digital Supply(Max)(V): 3.6; Digital Supply(Min)(V): 3; Eco-Plan: Green (RoHS & no Sb/Br); INL(Max)(+/-LSB): 2; Mounting Technology: Surface Mount; Code_JEDEC: MO-220; ComponentLink1Description: Manufacturer URL; ComponentLink1URL: http://www.ti.com/; ComponentLink2Description: Datasheet; ComponentLink2URL: http://www.ti.com/general/docs/lit/getliterature.tsp?genericPartNumber=ADS6222&fileType=pdf; ComponentLink3Description: Package Specification; ComponentLink3URL: http://www.ti.com/lit/ml/mpqf123e/mpqf123e.pdf
footprint TI-RGZ48-5150X5150TP_V (QFN, 48-Leads, Body 7x7mm, Pitch 0.5mm, Thermal Pad 5.15x5.15mm, TI Recommended)
part A pins: 10 INA_M (in) "Differential input signal pair, channel A. If unused, the pins should be tied to VCM. Do not float.", 11 INA_P (in) "Differential input signal pair, channel A. If unused, the pins should be tied to VCM. Do not float.", 15 CFG4 (in) "Parallel input pin. It controls data format and MSB or LSB first modes. See Table 12 for description", 22 CFG2 (in) "Parallel input pin. It controls 12x or 14x serialization and SDR bit clock capture edge. See Table 10 for description. For 12x serialization with DDR bit clock, tie to ground or AVDD.", 23 CFG1 (in) "Parallel input pin. It controls 1-wire or 2-wire interface and DDR or SDR bit clock selection. See Table 9 for description. Tie to AVDD for 2-wire interface with DDR bit clock.", 26 INB_P/IND_P (in), 27 INB_M/IND_M (in), 30 PDNB (in) "Channel B ADC power down control pin.", 31 PDNA (in) "Channel A ADC power down control pin.", 37 DB1_P/UNUSED (hiz), 38 DB1_M/UNUSED (hiz), 39 DB0_P/DB_P (hiz), 40 DB0_M/DB_M (hiz), 45 DA1_P/DA_P (hiz), 46 DA1_M/DA_M (hiz), 47 DA0_P/UNUSED (hiz), 48 DA0_M/UNUSED (hiz)
part B pins: 3 CAP "Connect 2-nF capacitor from pin to ground", 4 RESET (in) "Serial interface reset input. When using the serial interface mode, the user MUST initialize internal registers through hardware RESET by applying a high-going pulse on this pin or by using software reset option.Refer to the (See Datasheet)", 14 NC "Do Not Connect", 16 VCM (io) "Internal reference mode - common-mode voltage output External reference mode - reference input. The voltage forced on this pin sets the internal reference.", 18 CLKP (in) "Differential input clock pair", 19 CLKM (in) "Differential input clock pair", 32 SEN (in) "This pin functions as serial interface enable input when RESET is low. When RESET is high, it controls coarse gain and internal/external reference modes. See Table 6 for description. This pin has an internal pull-up resistor.", 33 SDATA (in) "This pin functions as serial interface data input when RESET is low. When RESET is high, it controls DESKEW, SYNC and global POWER DOWN modes (along with SCLK). See Table 5 for description. This pin has an internal pull-down (See Datasheet)", 34 SCLK (in) "This pin functions as serial interface clock input when RESET is low. When RESET is high, it controls DESKEW, SYNC and global POWER DOWN modes (along with SDATA). See Table 5 for description. This pin has an internal (See Datasheet)", 41 FCLKP (hiz) "Differential frame clock output pair", 42 FCLKM (hiz) "Differential frame clock output pair", 43 DCLKP (hiz) "Differential bit clock output pair", 44 DCLKM (hiz) "Differential bit clock output pair"
part C pins: 1 LGND (power) "Digital ground", 2 LVDD (power) "Digital power supply", 5 LVDD (power) "Digital power supply", 6 AGND (power) "Analog ground", 7 AVDD (power) "Analog power supply", 8 AGND (power) "Analog ground", 9 AGND (power) "Analog ground", 12 AGND (power) "Analog ground", 13 AVDD (power) "Analog power supply", 17 AGND (power) "Analog ground", 20 AGND (power) "Analog ground", 21 CFG3 (power) "RESERVED pin - TIE to ground.", 24 AVDD (power) "Analog power supply", 25 AGND (power) "Analog ground", 28 AGND (power) "Analog ground", 29 AGND (power) "Analog ground", 35 LGND (power) "Digital ground", 36 LVDD (power) "Digital power supply", 49 EP (power) "Connect to ground plane using multiple vias. Refer to Board Design Considerations in application section"